# Altium schematic symbol library reg_switching_buck_hv.SchLib: 102 symbols (part 2 of 2)
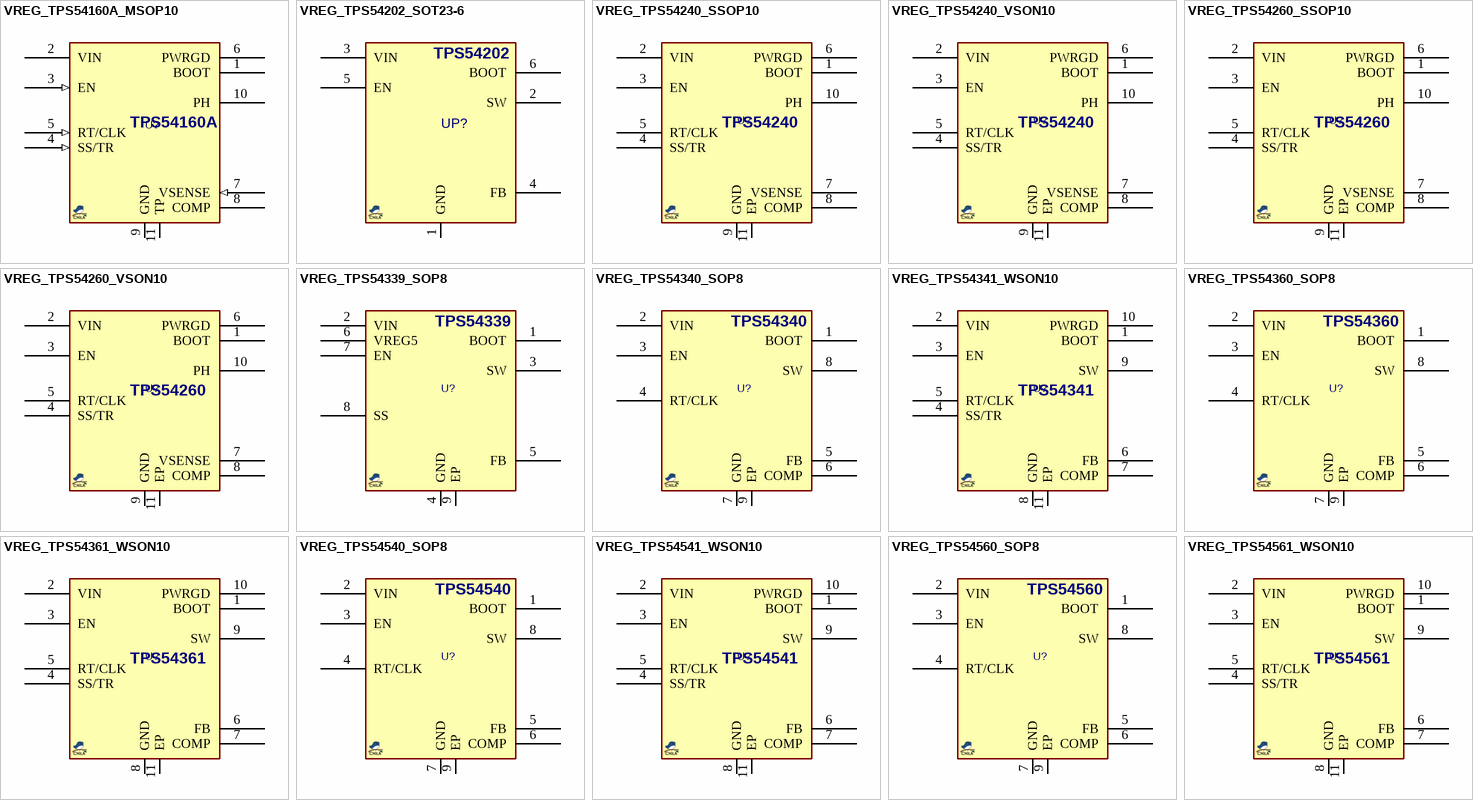
[diagram p4: symbols VREG_TPS54160A_MSOP10 to VREG_TPS54561_WSON10]

## VREG_TPS54160A_MSOP10
designator U?, comment TPS54160A  (value not drawn)
REG, Switching, Buck, 1.5A, ADJ, 0.1~2.5MHz, 3.5~60VIN, MSOP-8; MANF: Texas Instruments; MANF_P#: TPS54160ADGQ; PARAM2: 3.5~60VIN, 0.8~58VOUT; PARAM: 1.5A, 0.1~2.5MHz, -40+125°C; ASSEMBLY: ASSEMBLY; PRICE: 3$; VALUE: TPS54160A
footprint SOG50_10T (MSSOP10, 3X3mm 0.5mm pitch, MSOP10)
pins: 1 BOOT "A bootstrap capacitor is required between BOOT and PH. If the voltage on this capacitor is below the minimum required by the output device, the output is forced to switch off until the capacitor is refreshed.", 2 VIN (power) "Input supply voltage, 3.5 V to 60 V.", 3 EN (in) "Enable pin, internal pull-up current source. Pull below 1.2V to disable. Float to enable. Adjust the input undervoltage lockout with two resistors.", 4 SS/TR (in) "Slow-start and Tracking. An external capacitor connected to this pin sets the output rise time. Since the voltage on this pin overrides the internal reference, it can be used for tracking and sequencing.", 5 RT/CLK (in) "Resistor Timing and External Clock. An internal amplifier holds this pin at a fixed voltage when using an external resistor to ground to set the switching frequency. If the pin is pulled above the PLL upper threshold, a mode (See Datasheet)", 6 PWRGD (oc) "An open drain output, asserts low if output voltage is low due to thermal shutdown, dropout, over-voltage or EN shut down.", 7 VSENSE (in) "Inverting node of the transconductance ( gm) error amplifier.", 8 COMP "Error amplifier output, and input to the output switch current comparator. Connect frequency compensation components to this pin.", 9 GND (power) "Ground pin. Power ground return for switching circuit. Connect sensitive SS and VFB returns to GND at a single point.", 10 PH (power) "The source of the internal high-side power MOSFET.", 11 TP (power) "GND pin must be electrically connected to the exposed pad on the printed circuit board for proper operation."

## VREG_TPS54202_SOT23-6
designator UP?, comment TPS54202  (value not drawn)
REG, Switching, Buck, 2A, ADJ, 0.5MHz, 4.5~28VIN, SOT23-6; MANF: TI; PARAM: 2A, 0.5MHz, -40~125oC; PARAM2: 4.5~28VIN, ADJ, 148mΩ RDSon; MANF_P#: TPS54202DDC, TPS54202HDDC; ASSEMBLY: ASSEMBLY; PRICE: 2200t@LION; VALUE: TPS54202
footprint SOT23_6 (SOT-23-6, MICRO6, SOT-26, SOT457, SuperSOT6, TSOP-6, HMC313, MO-178AB, MO-193AA, TSOT)
pins: 1 GND (power), 2 SW, 3 VIN (power), 4 FB, 5 EN, 6 BOOT

## VREG_TPS54240_SSOP10
designator U?, comment TPS54240  (value not drawn)
REG, Switching, Buck, 2.5A, ADJ, 0.1~2.5MHz, 3.5~42VIN, SSOP-10; MANF: Texas Instruments; MANF_P#: TPS54240DGQ; PARAM: 2.5A, 0.1~2.5MHz, -40~150oC; PARAM2: 3.5~42VIN, ADJ, 200mΩ RDSon; ASSEMBLY: ASSEMBLY; PRICE: 3.4$; VALUE: TPS54240
footprint SOG50_10T (MSSOP10, 3X3mm 0.5mm pitch, MSOP10)
pins: 1 BOOT, 2 VIN, 3 EN, 4 SS/TR, 5 RT/CLK, 6 PWRGD, 7 VSENSE, 8 COMP, 9 GND, 10 PH, 11 EP

## VREG_TPS54240_VSON10
designator U?, comment TPS54240  (value not drawn)
REG, Switching, Buck, 2.5A, ADJ, 0.1~2.5MHz, 3.5~42VIN, SSOP-10; MANF: Texas Instruments; MANF_P#: TPS54240DRC; PARAM: 2.5A, 0.1~2.5MHz, -40~150oC; PARAM2: 3.5~42VIN, ADJ, 200mΩ RDSon; ASSEMBLY: ASSEMBLY; PRICE: 3.4$; VALUE: TPS54240
footprint SON50_10T_3030 (DRC SON(TI), 10 TDFN (MAXIM), 3X3mm, Pitch: 0.5mm with thermal pad)
pins: 1 BOOT, 2 VIN, 3 EN, 4 SS/TR, 5 RT/CLK, 6 PWRGD, 7 VSENSE, 8 COMP, 9 GND, 10 PH, 11 EP

## VREG_TPS54260_SSOP10
designator U?, comment TPS54260  (value not drawn)
REG, Switching, Buck, 2.5A, ADJ, 0.1~2.5MHz, 3.5~60VIN, HVSSOP-10; MANF: Texas Instruments; MANF_P#: TPS54260DGQ; PARAM: 2.5A, 0.1~2.5MHz, -40~150oC; PARAM2: 3.5~60VIN, ADJ, 200mΩ RDSon; ASSEMBLY: ASSEMBLY; PRICE: 4.3$; VALUE: TPS54260
footprint SOG50_10T (MSSOP10, MSOP10, DGQ, 3X3mm 0.5mm pitch)
pins: 1 BOOT, 2 VIN, 3 EN, 4 SS/TR, 5 RT/CLK, 6 PWRGD, 7 VSENSE, 8 COMP, 9 GND, 10 PH, 11 EP

## VREG_TPS54260_VSON10
designator U?, comment TPS54260  (value not drawn)
REG, Switching, Buck, 2.5A, ADJ, 0.1~2.5MHz, 3.5~60VIN, HVSSOP-10; MANF: Texas Instruments; MANF_P#: TPS54260DRC; PARAM: 2.5A, 0.1~2.5MHz, -40~150oC; PARAM2: 3.5~60VIN, ADJ, 200mΩ RDSon; ASSEMBLY: ASSEMBLY; PRICE: 4.3$; VALUE: TPS54260
footprint SON50_10T_3030 (DRC SON(TI), 10 TDFN (MAXIM), 3X3mm, Pitch: 0.5mm with thermal pad)
pins: 1 BOOT, 2 VIN, 3 EN, 4 SS/TR, 5 RT/CLK, 6 PWRGD, 7 VSENSE, 8 COMP, 9 GND, 10 PH, 11 EP

## VREG_TPS54339_SOP8
designator U?, comment TPS54339  (value not drawn)
REG, Switching, Buck, 3A, ADJ, 0.6MHz, 4.5~23VIN, SOP-8; MANF: Texas Instruments; MANF_P#: TPS54339DDA; PARAM: 3A, 0.6MHz, -40~85oC; PARAM2: 4.5~60VIN, ADJ 0.76~7V, 140mΩ RDSon; ASSEMBLY: ASSEMBLY; PRICE: 1.8$; VALUE: TPS54339
footprint SO_8T (SOP-8, 5x3.9mm body 0.5mm pitch, DDA, SO PowerPAD)
pins: 1 BOOT, 2 VIN, 3 SW, 4 GND, 5 FB, 6 VREG5, 7 EN, 8 SS, 9 EP

## VREG_TPS54340_SOP8
designator U?, comment TPS54340  (value not drawn)
REG, Switching, Buck, 3.5A, ADJ, 0.1~2.5MHz, 4.5~42VIN, HSOP-8; MANF: Texas Instruments; MANF_P#: TPS54340DDA; PARAM: 3.5A, 0.1~2.5MHz, -40~150oC; PARAM2: 4.5~42VIN, ADJ, 92mΩ RDSon; ASSEMBLY: ASSEMBLY; PRICE: 3.6$; VALUE: TPS54340
footprint SO_8T (SOP-8, 5x3.9mm body 0.5mm pitch, DDA, SO PowerPAD)
pins: 1 BOOT, 2 VIN, 3 EN, 4 RT/CLK, 5 FB, 6 COMP, 7 GND, 8 SW, 9 EP

## VREG_TPS54341_WSON10
designator U?, comment TPS54341  (value not drawn)
REG, Switching, Buck, 3.5A, ADJ, 0.1~2.5MHz, 4.5~42VIN, WSON-10; MANF: Texas Instruments; MANF_P#: TPS54341DPR; PARAM: 3.5A, 0.1~2.5MHz, -40~150oC; PARAM2: 4.5~42VIN, ADJ, 87mΩ RDSon; ASSEMBLY: ASSEMBLY; PRICE: 4.5$; VALUE: TPS54341
footprint SON80_10T_4040 (DPR WSON10, 10-Leads, 4x4mm, Pitch 0.80mm)
pins: 1 BOOT, 2 VIN, 3 EN, 4 SS/TR, 5 RT/CLK, 6 FB, 7 COMP, 8 GND, 9 SW, 10 PWRGD, 11 EP

## VREG_TPS54360_SOP8
designator U?, comment TPS54360  (value not drawn)
REG, Switching, Buck, 3.5A, ADJ, 0.1~2.5MHz, 4.5~60VIN, HSOP-8; MANF: Texas Instruments; MANF_P#: TPS54360DDA; PARAM: 3.5A, 0.1~2.5MHz, -40~150oC; PARAM2: 4.5~60VIN, ADJ, 92mΩ RDSon; ASSEMBLY: ASSEMBLY; PRICE: 3.6$; VALUE: TPS54360
footprint SO_8T (SOP-8, 5x3.9mm body 0.5mm pitch, DDA, SO PowerPAD)
pins: 1 BOOT, 2 VIN, 3 EN, 4 RT/CLK, 5 FB, 6 COMP, 7 GND, 8 SW, 9 EP

## VREG_TPS54361_WSON10
designator U?, comment TPS54361  (value not drawn)
REG, Switching, Buck, 3.5A, ADJ, 0.1~2.5MHz, 4.5~60VIN, WSON-10; MANF: Texas Instruments; MANF_P#: TPS54361DPR; PARAM: 3.5A, 0.1~2.5MHz, -40~150oC; PARAM2: 4.5~60VIN, ADJ, 89mΩ RDSon; ASSEMBLY: ASSEMBLY; PRICE: 4.5$; VALUE: TPS54361
footprint SON80_10T_4040 (DPR WSON10, 10-Leads, 4x4mm, Pitch 0.80mm)
pins: 1 BOOT, 2 VIN, 3 EN, 4 SS/TR, 5 RT/CLK, 6 FB, 7 COMP, 8 GND, 9 SW, 10 PWRGD, 11 EP

## VREG_TPS54540_SOP8
designator U?, comment TPS54540  (value not drawn)
REG, Switching, Buck, 5A, ADJ, 0.1~2.5MHz, 4.5~42VIN, HSOP-8; MANF: Texas Instruments; MANF_P#: TPS54540DDA; PARAM: 5A, 0.1~2.5MHz, -40~150oC; PARAM2: 4.5~42VIN, ADJ, 92mΩ RDSon; ASSEMBLY: ASSEMBLY; PRICE: 3.6$; VALUE: TPS54540
footprint SO_8T (SOP-8, 5x3.9mm body 0.5mm pitch, DDA, SO PowerPAD)
pins: 1 BOOT, 2 VIN, 3 EN, 4 RT/CLK, 5 FB, 6 COMP, 7 GND, 8 SW, 9 EP

## VREG_TPS54541_WSON10
designator U?, comment TPS54541  (value not drawn)
REG, Switching, Buck, 5A, ADJ, 0.1~2.5MHz, 4.5~42VIN, WSON-10; MANF: Texas Instruments; MANF_P#: TPS54541DPR; PARAM: 5A, 0.1~2.5MHz, -40~150oC; PARAM2: 4.5~42VIN, ADJ, 87mΩ RDSon; ASSEMBLY: ASSEMBLY; PRICE: 4.5$; VALUE: TPS54541
footprint SON80_10T_4040 (DPR WSON10, 10-Leads, 4x4mm, Pitch 0.80mm)
pins: 1 BOOT, 2 VIN, 3 EN, 4 SS/TR, 5 RT/CLK, 6 FB, 7 COMP, 8 GND, 9 SW, 10 PWRGD, 11 EP

## VREG_TPS54560_SOP8
designator U?, comment TPS54560  (value not drawn)
REG, Switching, Buck, 5A, ADJ, 0.1~2.5MHz, 4.5~60VIN, HSOP-8; MANF: Texas Instruments; MANF_P#: TPS54560DDA; PARAM: 5A, 0.1~2.5MHz, -40~150oC; PARAM2: 4.5~60VIN, ADJ, 92mΩ RDSon; ASSEMBLY: ASSEMBLY; PRICE: 3.6$; VALUE: TPS54560
footprint SO_8T (SOP-8, 5x3.9mm body 0.5mm pitch, DDA, SO PowerPAD)
pins: 1 BOOT, 2 VIN, 3 EN, 4 RT/CLK, 5 FB, 6 COMP, 7 GND, 8 SW, 9 EP

## VREG_TPS54561_WSON10
designator U?, comment TPS54561  (value not drawn)
REG, Switching, Buck, 5A, ADJ, 0.1~2.5MHz, 4.5~60VIN, WSON-10; MANF: Texas Instruments; MANF_P#: TPS54561DPR; PARAM: 5A, 0.1~2.5MHz, -40~150oC; PARAM2: 4.5~60VIN, ADJ, 87mΩ RDSon; ASSEMBLY: ASSEMBLY; PRICE: 4.5$; VALUE: TPS54561
footprint SON80_10T_4040 (DPR WSON10, 10-Leads, 4x4mm, Pitch 0.80mm)
pins: 1 BOOT, 2 VIN, 3 EN, 4 SS/TR, 5 RT/CLK, 6 FB, 7 COMP, 8 GND, 9 SW, 10 PWRGD, 11 EP